# Altium footprint library RESC160X82X60L27N.PcbLib: 1 footprints
Each footprint in its own frame and in the unit in brackets; x right, y up, seen from the top. Pads: shape width x height; smd on the part's side, far side on the other; paste and mask are expansions set on the pad; w line width, h text height; cw(c..) or ccw(c..) is an arc to the next point about the centre after c.
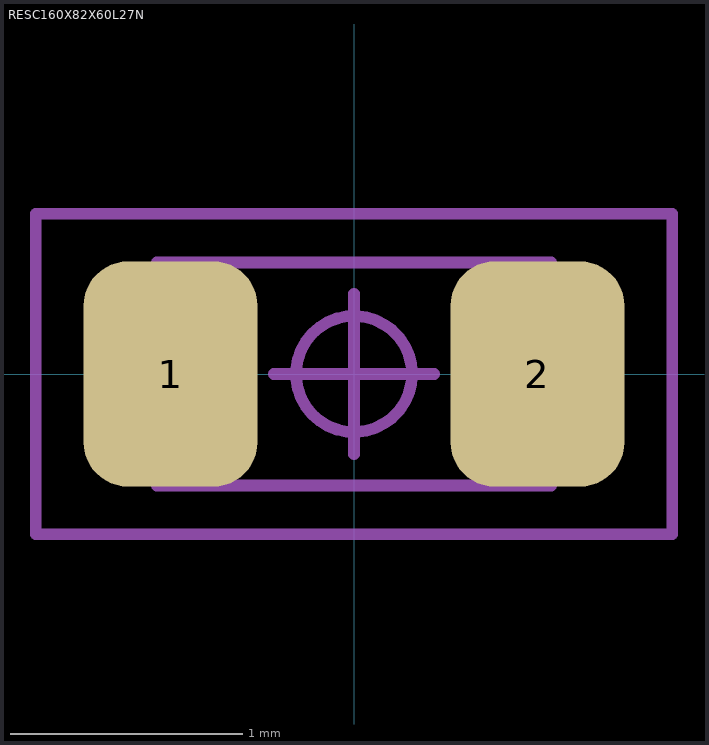
[diagram p0: the footprint, top view; thin cyan lines are the x and y axes]

## RESC160X82X60L27N [mm] "Resistor, Chip; 1.60 mm L X 0.825 mm W X 0.60 mm H body"
height 0.6
pads (2):
  rrect51% 0.75x0.97 smd mask+0.05: 1(-0.79,0) 2(0.79,0)
Mechanical 11:
  lines w0.05: -0.85,-0.48 0.85,-0.48 0.85,0.48 -0.85,0.48 -0.85,-0.48
Mechanical 15:
  circle w0.05: c0,0 r0.25
  lines w0.05: -0.345,0 0.345,0 ; 0,-0.345 0,0.345 ; -1.37,-0.69 1.37,-0.69 1.37,0.69 -1.37,0.69 -1.37,-0.69
3D body "RESC160X82X60L27.STEP": height 0.6, standoff 0, extent -0.85,-0.475 0.85,0.475